# EAGLE library part 555 (library blinky-lights)
555 Timer
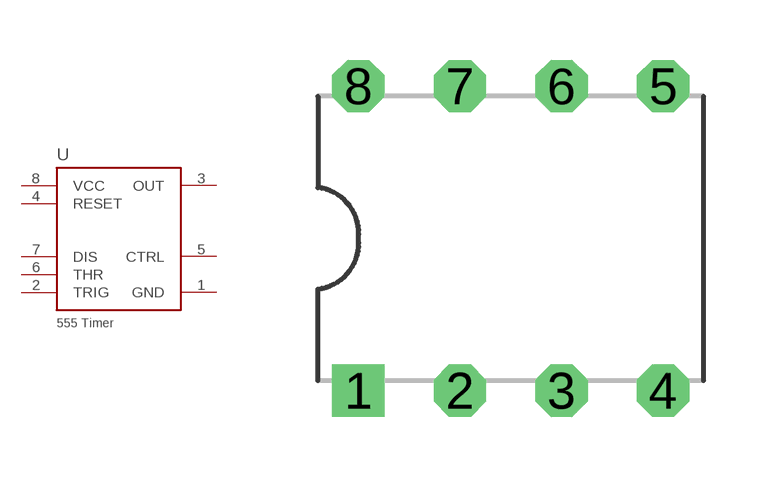
[diagram p1: symbol with the pads of 555; footprint 555]

Designator prefix U

## 555  [555]
1  GND  pwr
2  TRIG
3  OUT
4  RESET
5  CTRL
6  THR
7  DIS
8  VCC  pwr

## Footprint 555 (pad centres in mm)
drill 0.8 square: 1 -3.81,-3.81
drill 0.8 octagon: 2 -1.27,-3.81; 3 1.27,-3.81; 4 3.81,-3.81; 5 3.81,3.81; 6 1.27,3.81; 7 -1.27,3.81; 8 -3.81,3.81